# Altium schematic symbol library CN HDR 5POS.SchLib: 1 symbol
Pins are listed as number, name and electrical type; pins without a type are passive.

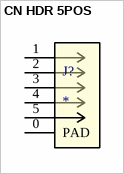
[diagram p0: symbol CN HDR 5POS]

## CN HDR 5POS
designator J?
Connector Header 5 Position
footprint CN HDR 5POS SMD 1.5MM (Connector Header Surface Mount 5 position 0.059" (1.50mm))
pins: 0 PAD, 1, 2, 3, 4, 5